# Altium footprint library zelena_led.PcbLib: 1 footprints
Each footprint in its own frame and in the unit in brackets; x right, y up, seen from the top. Pads: shape width x height; smd on the part's side, far side on the other; paste and mask are expansions set on the pad; w line width, h text height; cw(c..) or ccw(c..) is an arc to the next point about the centre after c.
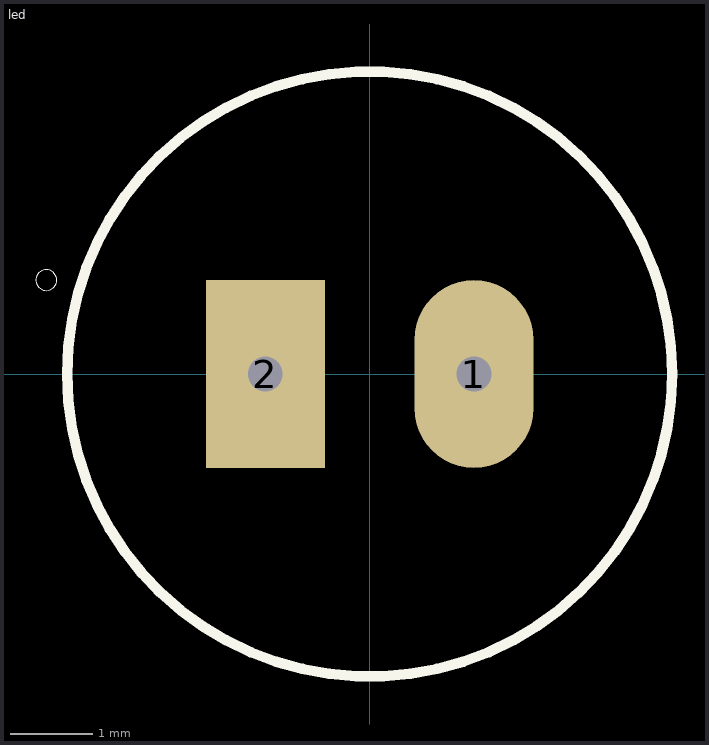
[diagram p0: the footprint, top view; thin cyan lines are the x and y axes]

## led [mil]
pads (2):
  oval 57x90 hole 16.68: 1(50,0)
  rect 57x90 hole 16.68: 2(-50,0)
Top Overlay:
  circle w5: c0,0 r145
  circle w0: c-155,45 r5